# Altium footprint library PIN_CubeSat_pcblib.PcbLib: 4 footprints
Each footprint in its own frame and in the unit in brackets; x right, y up, seen from the top. Pads: shape width x height; smd on the part's side, far side on the other; paste and mask are expansions set on the pad; w line width, h text height; cw(c..) or ccw(c..) is an arc to the next point about the centre after c.
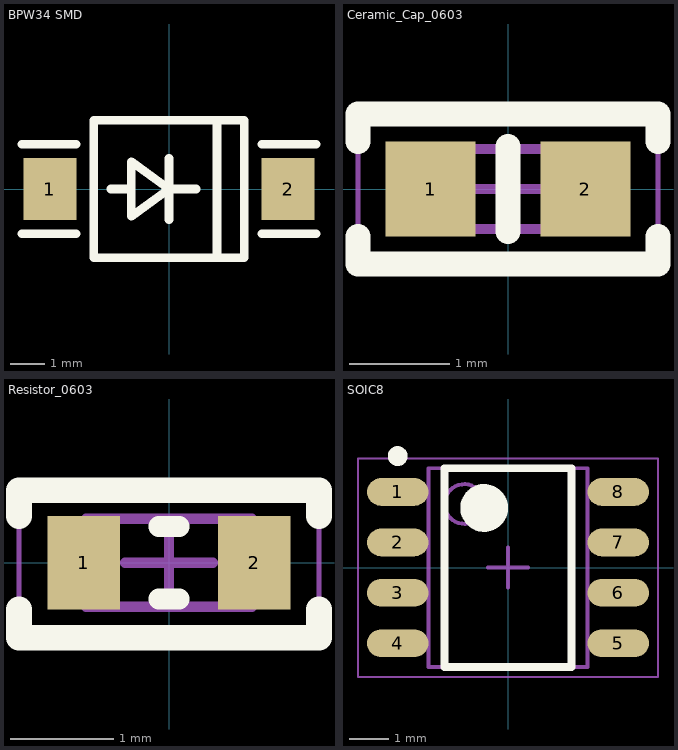
[diagram p0: the footprints below, top view; thin cyan lines are the x and y axes]

## BPW34 SMD [mm] "VBPW 34 FAS VISHAY"
pads (2):
  rect 1.55x1.8 smd: 1(-3.475,0) 2(3.475,0)
Top Overlay:
  lines w0.25: -4.3,-1.3 -2.7,-1.3 ; -4.3,1.3 -2.7,1.3 ; -2.2,1.95 -2.2,-2 2.2,-2 2.2,1.95 ; -2.2,2 2.2,2 ; -1.7,0 -1.1,0 ; 0,-0.9 0,0.9 ; 0.8,0 0,0 ; 1.4,-2 1.4,2 ; 2.7,-1.3 4.3,-1.3 ; 2.7,1.3 4.3,1.3 ; 0,0 -1.1,0.8 -1.1,-0.8 0,0
3D body: height 1.2, standoff 0, extent -2.2,-2 2.2,2

## Ceramic_Cap_0603 [mm] "Chip Capacitor, 2-Leads, Body 1.60x0.80mm, IPC Medium Density"
height 0.8
pads (2):
  rect 0.9x0.95 smd: 1(-0.775,0) 2(0.775,0)
Top Overlay:
  lines w0.25: -1.5,-0.475 -1.5,-0.75 1.5,-0.75 1.5,-0.475 ; -1.5,0.475 -1.5,0.75 1.5,0.75 1.5,0.475 ; 0,-0.425 0,0.425
Mechanical 13:
  lines w0.1: -0.8,-0.4 -0.8,0.4 0.8,0.4 0.8,-0.4 -0.8,-0.4
Mechanical 15:
  lines w0.05: -1.5,-0.75 -1.5,0.75 1.5,0.75 1.5,-0.75 -1.5,-0.75
  lines w0.1: -0.4,0 0.4,0 ; 0,-0.4 0,0.4
3D body: height 0.8, standoff 0, extent -0.4,-0.4 0.4,0.4
3D body: height 0.8, standoff 0, extent -0.8,-0.4 -0.4,0.4
3D body: height 0.8, standoff 0, extent 0.4,-0.4 0.8,0.4

## Resistor_0603 [mm]
height 0.45
pads (2):
  rect 0.7x0.9 smd: 1(-0.825,0) 2(0.825,0)
Top Overlay:
  lines w0.2: -0.1,-0.35 0.1,-0.35 ; -0.1,0.35 0.1,0.35
  lines w0.25: -1.45,-0.45 -1.45,-0.725 1.45,-0.725 1.45,-0.45 ; -1.45,0.45 -1.45,0.7 1.45,0.7 1.45,0.45
Mechanical 13:
  lines w0.1: -0.8,-0.425 -0.8,0.425 0.8,0.425 0.8,-0.425 -0.8,-0.425
Mechanical 15:
  lines w0.05: -1.45,-0.7 -1.45,0.7 1.45,0.7 1.45,-0.7 -1.45,-0.7
  lines w0.1: -0.425,0 0.425,0 ; 0,-0.425 0,0.425
3D body: height 0.45, standoff 0, extent -0.5,-0.425 0.5,0.425
3D body: height 0.45, standoff 0, extent -0.8,-0.425 -0.5,0.425
3D body: height 0.45, standoff 0, extent 0.5,-0.425 0.8,0.425

## SOIC8 [mm] "SOIC, 8-Leads, Body 5.00x3.98mm, Pitch 1.27mm, IPC Medium Density"
height 1.75
pads (8):
  oval 1.55x0.7 smd: 1(-2.775,1.905) 2(-2.775,0.635) 3(-2.775,-0.635) 4(-2.775,-1.905) 5(2.775,-1.905) 6(2.775,-0.635) 7(2.775,0.635) 8(2.775,1.905)
Top Overlay:
  circle w0.6: c-0.6,1.5 r0.3
  circle w0.25: c-2.775,2.805 r0.125
  lines w0.2: -1.6,-2.5 1.6,-2.5 1.6,2.5 -1.6,2.5 -1.6,-2.5
Mechanical 13:
  circle w0.1: c-1.1,1.6 r0.5
  lines w0.1: -2,-2.5 2,-2.5 2,2.5 -2,2.5 -2,-2.5
Mechanical 15:
  lines w0.05: -3.775,-2.75 3.775,-2.75 3.775,2.75 -3.775,2.75 -3.775,-2.75
  lines w0.1: -0.5,0 0.5,0 ; 0,-0.5 0,0.5
3D body: height 1.75, standoff 0.1, extent -2,-2.5 2,2.5